# Altium footprint library PCB - CONNECTOR - MODULAR - AMPHENOL RJMG201K2.PCBLIB: 1 footprints
Each footprint in its own frame and in the unit in brackets; x right, y up, seen from the top. Pads: shape width x height; smd on the part's side, far side on the other; paste and mask are expansions set on the pad; w line width, h text height; cw(c..) or ccw(c..) is an arc to the next point about the centre after c.
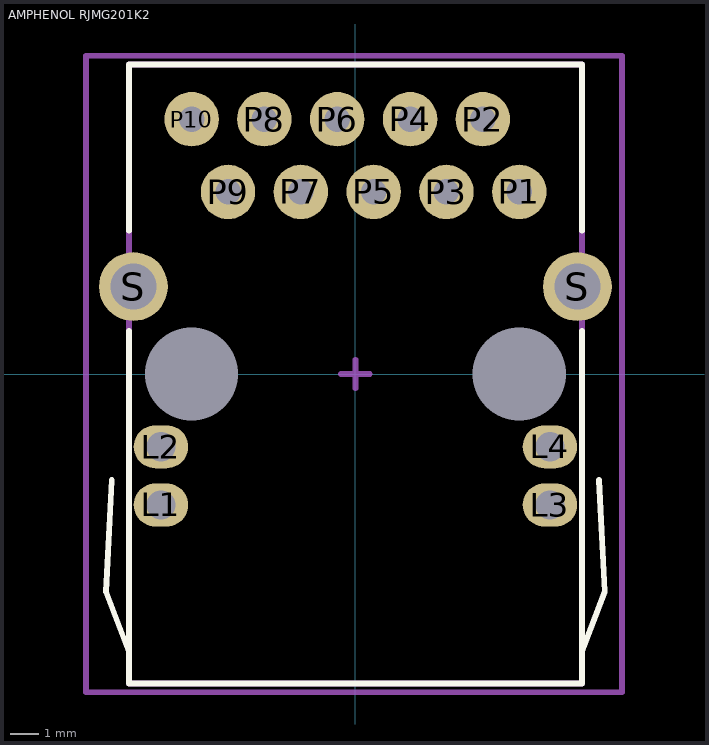
[diagram p0: the footprint, top view; thin cyan lines are the x and y axes]

## AMPHENOL RJMG201K2 [mm]
height 13.8
pads (18):
  oval 1.9x1.5 hole 1.02: L1(-6.785,-4.57) L2(-6.785,-2.54) L3(6.785,-4.57) L4(6.785,-2.54)
  round 0 hole 3.25 unplated: M(-5.715,0) M(5.715,0)
  round 1.9 hole 0.89: P1(5.715,6.35) P2(4.445,8.89) P3(3.175,6.35) P4(1.905,8.89) P5(0.635,6.35) P6(-0.635,8.89) P7(-1.905,6.35) P8(-3.175,8.89) P9(-4.445,6.35) P10(-5.715,8.89)
  round 2.4 hole 1.6: S(-7.745,3.05) S(7.745,3.05)
Top Overlay:
  lines w0.2: -8.5,-3.7 -8.7,-7.6 -7.9,-9.7 ; -7.9,1.5 -7.9,-10.8 7.9,-10.8 7.9,1.5 ; -7.9,5 -7.9,10.8 7.9,10.8 7.9,5 ; 7.9,-9.7 8.7,-7.6 8.5,-3.7
Top Courtyard:
  lines w0.2: -9.4,-11.1 9.3,-11.1 9.3,11.1 -9.4,11.1 -9.4,-11.1
Top Assembly:
  lines w0.2: -0.5,0 0.5,0 ; 0,-0.5 0,0.5
Top Component Outline:
  lines w0.2: -7.9,-10.8 -7.9,10.8 7.9,10.8 7.9,-10.8 -7.9,-10.8
3D body "AMPHENOL RJMG201K21120FR.step": height 14.79, standoff -3.2, extent -8.867,-10.84 8.867,10.81